# EAGLE library part LT8612IUDEPBF (library LT8612_QFN-28)
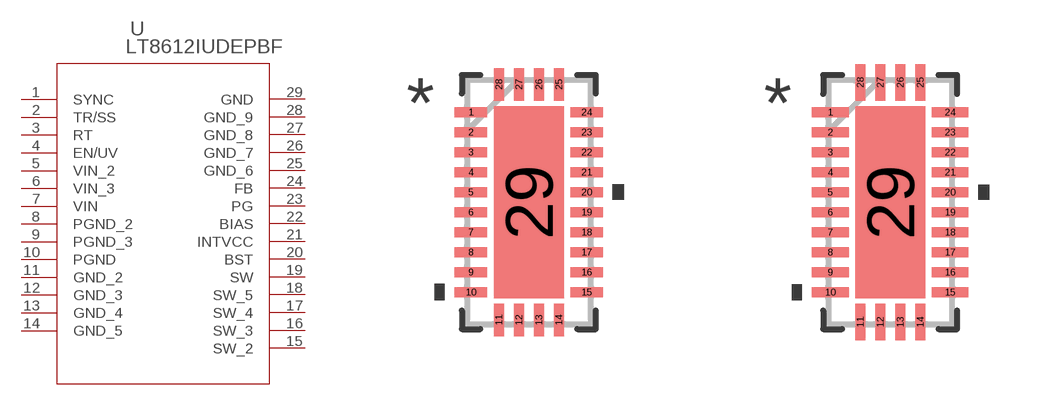
[diagram p0: symbol with the pads of QFN-28_UDE_LTI; footprints QFN-28_UDE_LTI, QFN-28_UDE_LTI-M]

Designator prefix U

## LT8612IUDEPBFQFN-28_UDE_LTI (Copyright: Copyright (C) 2024 Ultra Librarian. All rights reserved.; Manufacturer_Part_Number: LT8612IUDE#PBF; Mfr_Name: Analog Devices Inc)  [QFN-28_UDE_LTI]
1  SYNC  in
2  TR/SS  out
3  RT  pas
4  EN/UV  pas
5  VIN_2  in
6  VIN_3  in
7  VIN  in
8  PGND_2  pwr
9  PGND_3  pwr
10  PGND  pwr
11  GND_2  pwr
12  GND_3  pwr
13  GND_4  pwr
14  GND_5  pwr
15  SW_2  out
16  SW_3  out
17  SW_4  out
18  SW_5  out
19  SW  out
20  BST  in
21  INTVCC  pas
22  BIAS  out
23  PG  out
24  FB  pas
25  GND_6  pwr
26  GND_7  pwr
27  GND_8  pwr
28  GND_9  pwr
29  GND  pwr

## LT8612IUDEPBFQFN-28_UDE_LTI-M (Copyright: Copyright (C) 2024 Ultra Librarian. All rights reserved.; Manufacturer_Part_Number: LT8612IUDE#PBF; Mfr_Name: Analog Devices Inc)  [QFN-28_UDE_LTI-M]
Pads as for QFN-28_UDE_LTI

## LT8612IUDEPBFQFN-28_UDE_LTI-L (Copyright: Copyright (C) 2024 Ultra Librarian. All rights reserved.; Manufacturer_Part_Number: LT8612IUDE#PBF; Mfr_Name: Analog Devices Inc)  [QFN-28_UDE_LTI-L]
Pads as for QFN-28_UDE_LTI

## Footprint QFN-28_UDE_LTI (pad centres in mm)
smd 0.813 x 0.254: 1 -1.448,2.25; 2 -1.448,1.75; 3 -1.448,1.25; 4 -1.448,0.75; 5 -1.448,0.25; 6 -1.448,-0.25; 7 -1.448,-0.75; 8 -1.448,-1.25; 9 -1.448,-1.75; 10 -1.448,-2.25; 15 1.448,-2.25; 16 1.448,-1.75; 17 1.448,-1.25; 18 1.448,-0.75; 19 1.448,-0.25; 20 1.448,0.25; 21 1.448,0.75; 22 1.448,1.25; 23 1.448,1.75; 24 1.448,2.25
smd 0.254 x 0.813: 11 -0.75,-2.946; 12 -0.25,-2.946; 13 0.25,-2.946; 14 0.75,-2.946; 25 0.75,2.946; 26 0.25,2.946; 27 -0.25,2.946; 28 -0.75,2.946
smd 1.753 x 4.801: 29 0,0

## Footprint QFN-28_UDE_LTI-M (pad centres in mm)
smd 0.914 x 0.254: 1 -1.499,2.25; 2 -1.499,1.75; 3 -1.499,1.25; 4 -1.499,0.75; 5 -1.499,0.25; 6 -1.499,-0.25; 7 -1.499,-0.75; 8 -1.499,-1.25; 9 -1.499,-1.75; 10 -1.499,-2.25; 15 1.499,-2.25; 16 1.499,-1.75; 17 1.499,-1.25; 18 1.499,-0.75; 19 1.499,-0.25; 20 1.499,0.25; 21 1.499,0.75; 22 1.499,1.25; 23 1.499,1.75; 24 1.499,2.25
smd 0.254 x 0.914: 11 -0.75,-2.997; 12 -0.25,-2.997; 13 0.25,-2.997; 14 0.75,-2.997; 25 0.75,2.997; 26 0.25,2.997; 27 -0.25,2.997; 28 -0.75,2.997
smd 1.753 x 4.801: 29 0,0

## Footprint QFN-28_UDE_LTI-L (pad centres in mm)
smd 0.711 x 0.254: 1 -1.397,2.25; 2 -1.397,1.75; 3 -1.397,1.25; 4 -1.397,0.75; 5 -1.397,0.25; 6 -1.397,-0.25; 7 -1.397,-0.75; 8 -1.397,-1.25; 9 -1.397,-1.75; 10 -1.397,-2.25; 15 1.397,-2.25; 16 1.397,-1.75; 17 1.397,-1.25; 18 1.397,-0.75; 19 1.397,-0.25; 20 1.397,0.25; 21 1.397,0.75; 22 1.397,1.25; 23 1.397,1.75; 24 1.397,2.25
smd 0.254 x 0.711: 11 -0.75,-2.896; 12 -0.25,-2.896; 13 0.25,-2.896; 14 0.75,-2.896; 25 0.75,2.896; 26 0.25,2.896; 27 -0.25,2.896; 28 -0.75,2.896
smd 1.753 x 4.801: 29 0,0